# Altium footprint library Mercury2.PcbLib: 66 footprints (part 1 of 5)
Each footprint in its own frame and in the unit in brackets; x right, y up, seen from the top. Pads: shape width x height; smd on the part's side, far side on the other; paste and mask are expansions set on the pad; w line width, h text height; cw(c..) or ccw(c..) is an arc to the next point about the centre after c.
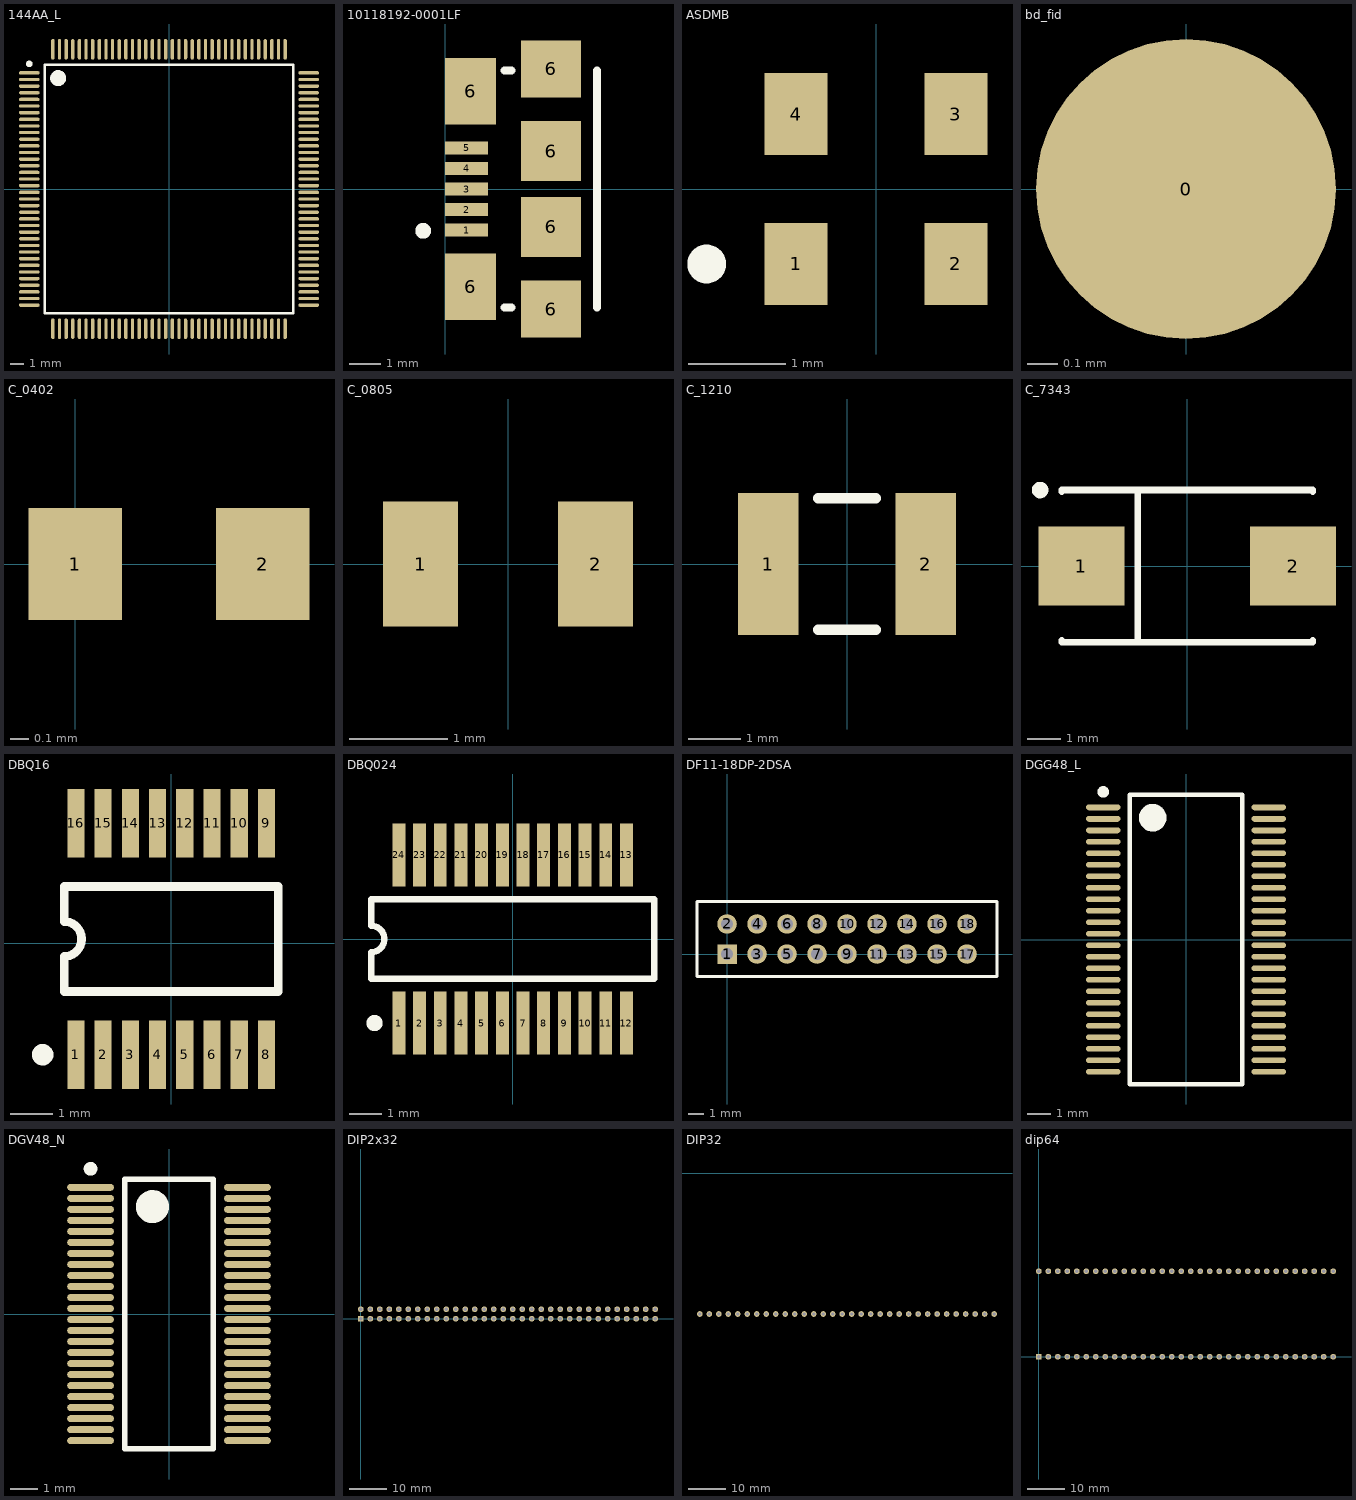
[diagram p0: the footprints below, top view; thin cyan lines are the x and y axes]

## 144AA_L [mm] "Thin QFP, 144-Leads, Body 20x20mm, Pitch 0.5mm, IPC High Density"
height 1.6
pads (144):
  oval 1.55x0.25 smd: 1(-10.525,8.75) 2(-10.525,8.25) 3(-10.525,7.75) 4(-10.525,7.25) 5(-10.525,6.75) 6(-10.525,6.25) 7(-10.525,5.75) 8(-10.525,5.25) 9(-10.525,4.75) 10(-10.525,4.25) 11(-10.525,3.75) 12(-10.525,3.25) 13(-10.525,2.75) 14(-10.525,2.25) 15(-10.525,1.75) 16(-10.525,1.25) 17(-10.525,0.75) 18(-10.525,0.25) 19(-10.525,-0.25) 20(-10.525,-0.75) 21(-10.525,-1.25) 22(-10.525,-1.75) 23(-10.525,-2.25) 24(-10.525,-2.75) 25(-10.525,-3.25) 26(-10.525,-3.75) 27(-10.525,-4.25) 28(-10.525,-4.75) 29(-10.525,-5.25) 30(-10.525,-5.75) 31(-10.525,-6.25) 32(-10.525,-6.75) 33(-10.525,-7.25) 34(-10.525,-7.75) 35(-10.525,-8.25) 36(-10.525,-8.75) 73(10.525,-8.75) 74(10.525,-8.25) 75(10.525,-7.75) 76(10.525,-7.25) 77(10.525,-6.75) 78(10.525,-6.25) 79(10.525,-5.75) 80(10.525,-5.25) 81(10.525,-4.75) 82(10.525,-4.25) 83(10.525,-3.75) 84(10.525,-3.25) 85(10.525,-2.75) 86(10.525,-2.25) 87(10.525,-1.75) 88(10.525,-1.25) 89(10.525,-0.75) 90(10.525,-0.25) 91(10.525,0.25) 92(10.525,0.75) 93(10.525,1.25) 94(10.525,1.75) 95(10.525,2.25) 96(10.525,2.75) 97(10.525,3.25) 98(10.525,3.75) 99(10.525,4.25) 100(10.525,4.75) 101(10.525,5.25) 102(10.525,5.75) 103(10.525,6.25) 104(10.525,6.75) 105(10.525,7.25) 106(10.525,7.75) 107(10.525,8.25) 108(10.525,8.75)
  oval 0.25x1.55 smd: 37(-8.75,-10.525) 38(-8.25,-10.525) 39(-7.75,-10.525) 40(-7.25,-10.525) 41(-6.75,-10.525) 42(-6.25,-10.525) 43(-5.75,-10.525) 44(-5.25,-10.525) 45(-4.75,-10.525) 46(-4.25,-10.525) 47(-3.75,-10.525) 48(-3.25,-10.525) 49(-2.75,-10.525) 50(-2.25,-10.525) 51(-1.75,-10.525) 52(-1.25,-10.525) 53(-0.75,-10.525) 54(-0.25,-10.525) 55(0.25,-10.525) 56(0.75,-10.525) 57(1.25,-10.525) 58(1.75,-10.525) 59(2.25,-10.525) 60(2.75,-10.525) 61(3.25,-10.525) 62(3.75,-10.525) 63(4.25,-10.525) 64(4.75,-10.525) 65(5.25,-10.525) 66(5.75,-10.525) 67(6.25,-10.525) 68(6.75,-10.525) 69(7.25,-10.525) 70(7.75,-10.525) 71(8.25,-10.525) 72(8.75,-10.525) 109(8.75,10.525) 110(8.25,10.525) 111(7.75,10.525) 112(7.25,10.525) 113(6.75,10.525) 114(6.25,10.525) 115(5.75,10.525) 116(5.25,10.525) 117(4.75,10.525) 118(4.25,10.525) 119(3.75,10.525) 120(3.25,10.525) 121(2.75,10.525) 122(2.25,10.525) 123(1.75,10.525) 124(1.25,10.525) 125(0.75,10.525) 126(0.25,10.525) 127(-0.25,10.525) 128(-0.75,10.525) 129(-1.25,10.525) 130(-1.75,10.525) 131(-2.25,10.525) 132(-2.75,10.525) 133(-3.25,10.525) 134(-3.75,10.525) 135(-4.25,10.525) 136(-4.75,10.525) 137(-5.25,10.525) 138(-5.75,10.525) 139(-6.25,10.525) 140(-6.75,10.525) 141(-7.25,10.525) 142(-7.75,10.525) 143(-8.25,10.525) 144(-8.75,10.525)
Top Overlay:
  circle w0.25: c-10.525,9.425 r0.125
  circle w0.6: c-8.35,8.35 r0.3
  lines w0.2: -9.35,-9.35 -9.35,9.35 9.35,9.35 9.35,-9.35 -9.35,-9.35

## 10118192-0001LF [mm] "FCI 5P MICRO USB TYPE B RECEPTACLE"
pads (11):
  rect 1.35x0.4 smd: 1(0.675,-1.3) 2(0.675,-0.65) 3(0.675,0) 4(0.675,0.65) 5(0.675,1.3)
  rect 1.6x2.1 smd: 6(0.8,-3.1) 6(0.8,3.1)
  rect 1.9x1.8 smd: 6(3.35,-3.8) 6(3.35,3.8)
  rect 1.9x1.9 smd: 6(3.35,-1.2) 6(3.35,1.2)
Top Overlay:
  circle w0.25: c-0.7,-1.325 r0.125
  lines w0.254: 1.875,-3.75 2.1,-3.75 ; 1.875,3.75 2.1,3.75 ; 4.8,-3.75 4.8,3.75

## ASDMB [mm] "MEMS Oscillator, 2mm W x 2.5 mm L"
pads (4):
  rect 0.65x0.85 smd: 1(-0.825,-0.775) 2(0.825,-0.775) 3(0.825,0.775) 4(-0.825,0.775)
Top Overlay:
  circle w0.2: c-1.75,-0.775 r0.1

## bd_fid [mm]
pads (1):
  round 1 smd paste-0.508 mask+0.5: 0(0,0)

## C_0402 [mm] "Chip Capacitor, 2-Leads, Body 1.00x0.50mm"
height 0.6
pads (2):
  rect 0.5x0.6 smd: 1(0,0) 2(1,0)

## C_0805 [mil] "Chip Capacitor; Body 2.0 x 1.2 mm (LxW typ)"
height 43.31
pads (2):
  rect 30x50 smd: 1(-35,0) 2(35,0)

## C_1210 [mm] "Chip Capacitor, Body 3.2x2.5mm, Height 1mm, IPC Medium Density"
height 1
pads (2):
  rect 1.15x2.7 smd: 1(-1.5,0) 2(1.5,0)
Top Overlay:
  lines w0.2: -0.55,-1.25 0.55,-1.25 ; -0.55,1.25 0.55,1.25

## C_7343 [mm] "Capacitor, SM Tantalum; Body 7.3 x 4.3 mm (LxW typ)"
height 3.7
pads (2):
  rect 2.6x2.4 smd: 1(-3.2,0) 2(3.2,0)
Top Overlay:
  circle w0.25: c-4.45,2.3 r0.125
  lines w0.2: -3.8,-2.25 -3.8,-2.3 3.8,-2.3 3.8,-2.25 ; -3.8,2.25 -3.8,2.3 3.8,2.3 3.8,2.25 ; -1.5,-2.3 -1.5,2.3

## DBQ16 [mm] "SSOP; 16 Leads; Body Width 5 mm; Pitch 0.64 mm"
pads (16):
  rect 0.4x1.6 smd: 1(-2.223,-2.6) 2(-1.588,-2.6) 3(-0.953,-2.6) 4(-0.318,-2.6) 5(0.317,-2.6) 6(0.952,-2.6) 7(1.587,-2.6) 8(2.222,-2.6) 9(2.222,2.8) 10(1.587,2.8) 11(0.952,2.8) 12(0.317,2.8) 13(-0.318,2.8) 14(-0.953,2.8) 15(-1.588,2.8) 16(-2.223,2.8)
Top Overlay:
  circle w0.25: c-3,-2.6 r0.125
  lines w0.2: -2.5,-1.125 2.5,-1.125 2.5,1.325 -2.5,1.325 -2.5,0.508 cw(c-2.5,0.1) -2.5,-0.308 -2.5,-1.125

## DBQ024 [mm] "SSOP; 24 Leads; Body Width 3.9 mm; Pitch 0.64 mm"
height 1.75
pads (24):
  rect 0.4x1.95 smd: 1(-3.52,-2.6) 2(-2.88,-2.6) 3(-2.24,-2.6) 4(-1.6,-2.6) 5(-0.96,-2.6) 6(-0.32,-2.6) 7(0.32,-2.6) 8(0.96,-2.6) 9(1.6,-2.6) 10(2.24,-2.6) 11(2.88,-2.6) 12(3.52,-2.6) 13(3.52,2.6) 14(2.88,2.6) 15(2.24,2.6) 16(1.6,2.6) 17(0.96,2.6) 18(0.32,2.6) 19(-0.32,2.6) 20(-0.96,2.6) 21(-1.6,2.6) 22(-2.24,2.6) 23(-2.88,2.6) 24(-3.52,2.6)
Top Overlay:
  circle w0.25: c-4.27,-2.6 r0.125
  lines w0.2: -4.375,-1.225 4.375,-1.225 4.375,1.225 -4.375,1.225 -4.375,0.408 cw(c-4.375,0) -4.375,-0.408 -4.375,-1.225

## DF11-18DP-2DSA [mm]
height 6.6
pads (18):
  rect 1.3x1.3 hole 0.8: 1(0,0)
  round 1.3 hole 0.8: 2(0,2) 3(2,0) 4(2,2) 5(4,0) 6(4,2) 7(6,0) 8(6,2) 9(8,0) 10(8,2) 11(10,0) 12(10,2) 13(12,0) 14(12,2) 15(14,0) 16(14,2) 17(16,0) 18(16,2)
Top Overlay:
  lines w0.2: -2,-1.5 18,-1.5 18,3.5 -2,3.5 -2,-1.5

## DGG48_L [mm] "TSSOP, 48-Leads, Body 12.5x6.1mm, Pitch 0.5mm, IPC High Density"
height 1.2
pads (48):
  oval 1.5x0.25 smd: 1(-3.6,5.75) 2(-3.6,5.25) 3(-3.6,4.75) 4(-3.6,4.25) 5(-3.6,3.75) 6(-3.6,3.25) 7(-3.6,2.75) 8(-3.6,2.25) 9(-3.6,1.75) 10(-3.6,1.25) 11(-3.6,0.75) 12(-3.6,0.25) 13(-3.6,-0.25) 14(-3.6,-0.75) 15(-3.6,-1.25) 16(-3.6,-1.75) 17(-3.6,-2.25) 18(-3.6,-2.75) 19(-3.6,-3.25) 20(-3.6,-3.75) 21(-3.6,-4.25) 22(-3.6,-4.75) 23(-3.6,-5.25) 24(-3.6,-5.75) 25(3.6,-5.75) 26(3.6,-5.25) 27(3.6,-4.75) 28(3.6,-4.25) 29(3.6,-3.75) 30(3.6,-3.25) 31(3.6,-2.75) 32(3.6,-2.25) 33(3.6,-1.75) 34(3.6,-1.25) 35(3.6,-0.75) 36(3.6,-0.25) 37(3.6,0.25) 38(3.6,0.75) 39(3.6,1.25) 40(3.6,1.75) 41(3.6,2.25) 42(3.6,2.75) 43(3.6,3.25) 44(3.6,3.75) 45(3.6,4.25) 46(3.6,4.75) 47(3.6,5.25) 48(3.6,5.75)
Top Overlay:
  circle w0.25: c-3.6,6.425 r0.125
  circle w0.6: c-1.45,5.3 r0.3
  lines w0.2: -2.45,-6.3 -2.45,6.3 2.45,6.3 2.45,-6.3 -2.45,-6.3

## DGV48_N [mm] "TVSOP, 48-Leads, Body 9.7x4.4mm, Pitch 0.4mm, IPC Medium Density"
height 1.2
pads (48):
  oval 1.7x0.25 smd: 1(-2.85,4.6) 2(-2.85,4.2) 3(-2.85,3.8) 4(-2.85,3.4) 5(-2.85,3) 6(-2.85,2.6) 7(-2.85,2.2) 8(-2.85,1.8) 9(-2.85,1.4) 10(-2.85,1) 11(-2.85,0.6) 12(-2.85,0.2) 13(-2.85,-0.2) 14(-2.85,-0.6) 15(-2.85,-1) 16(-2.85,-1.4) 17(-2.85,-1.8) 18(-2.85,-2.2) 19(-2.85,-2.6) 20(-2.85,-3) 21(-2.85,-3.4) 22(-2.85,-3.8) 23(-2.85,-4.2) 24(-2.85,-4.6) 25(2.85,-4.6) 26(2.85,-4.2) 27(2.85,-3.8) 28(2.85,-3.4) 29(2.85,-3) 30(2.85,-2.6) 31(2.85,-2.2) 32(2.85,-1.8) 33(2.85,-1.4) 34(2.85,-1) 35(2.85,-0.6) 36(2.85,-0.2) 37(2.85,0.2) 38(2.85,0.6) 39(2.85,1) 40(2.85,1.4) 41(2.85,1.8) 42(2.85,2.2) 43(2.85,2.6) 44(2.85,3) 45(2.85,3.4) 46(2.85,3.8) 47(2.85,4.2) 48(2.85,4.6)
Top Overlay:
  circle w0.6: c-0.6,3.9 r0.3
  circle w0.25: c-2.85,5.275 r0.125
  lines w0.2: -1.6,-4.9 1.6,-4.9 1.6,4.9 -1.6,4.9 -1.6,-4.9

## DIP2x32 [mm]
pads (64):
  rect 1.5x1.5 hole 0.9: 1(0,0.025)
  round 1.5 hole 0.9: 2(0,2.565) 3(2.54,0.025) 4(2.54,2.565) 5(5.08,0.025) 6(5.08,2.565) 7(7.62,0.025) 8(7.62,2.565) 9(10.16,0.025) 10(10.16,2.565) 11(12.7,0.025) 12(12.7,2.565) 13(15.24,0.025) 14(15.24,2.565) 15(17.78,0.025) 16(17.78,2.565) 17(20.32,0.025) 18(20.32,2.565) 19(22.86,0.025) 20(22.86,2.565) 21(25.4,0.025) 22(25.4,2.565) 23(27.94,0.025) 24(27.94,2.565) 25(30.48,0.025) 26(30.48,2.565) 27(33.02,0.025) 28(33.02,2.565) 29(35.56,0.025) 30(35.56,2.565) 31(38.1,0.025) 32(38.1,2.565) 33(40.64,0.025) 34(40.64,2.565) 35(43.18,0.025) 36(43.18,2.565) 37(45.72,0.025) 38(45.72,2.565) 39(48.26,0.025) 40(48.26,2.565) 41(50.8,0.025) 42(50.8,2.565) 43(53.34,0.025) 44(53.34,2.565) 45(55.88,0.025) 46(55.88,2.565) 47(58.42,0.025) 48(58.42,2.565) 49(60.96,0.025) 50(60.96,2.565) 51(63.5,0.025) 52(63.5,2.565) 53(66.04,0.025) 54(66.04,2.565) 55(68.58,0.025) 56(68.58,2.565) 57(71.12,0.025) 58(71.12,2.565) 59(73.66,0.025) 60(73.66,2.565) 61(76.2,0.025) 62(76.2,2.565) 63(78.74,0.025) 64(78.74,2.565)

## DIP32 [mm]
pads (32):
  round 1.5 hole 0.9: 1(40.885,-37.6) 2(43.425,-37.6) 3(45.965,-37.6) 4(48.505,-37.6) 5(51.045,-37.6) 6(53.585,-37.6) 7(56.125,-37.6) 8(58.665,-37.6) 9(61.205,-37.6) 10(63.745,-37.6) 11(66.285,-37.6) 12(68.825,-37.6) 13(71.365,-37.6) 14(73.905,-37.6) 15(76.445,-37.6) 16(78.985,-37.6) 17(81.525,-37.6) 18(84.065,-37.6) 19(86.605,-37.6) 20(89.145,-37.6) 21(91.685,-37.6) 22(94.225,-37.6) 23(96.765,-37.6) 24(99.305,-37.6) 25(101.845,-37.6) 26(104.385,-37.6) 27(106.925,-37.6) 28(109.465,-37.6) 29(112.005,-37.6) 30(114.545,-37.6) 31(117.085,-37.6) 32(119.65,-37.6)

## dip64 [mm]
pads (64):
  rect 1.5x1.5 hole 0.9: 1(0,0)
  round 1.5 hole 0.9: 2(2.54,0) 3(5.08,0) 4(7.62,0) 5(10.16,0) 6(12.7,0) 7(15.24,0) 8(17.78,0) 9(20.32,0) 10(22.86,0) 11(25.4,0) 12(27.94,0) 13(30.48,0) 14(33.02,0) 15(35.56,0) 16(38.1,0) 17(40.64,0) 18(43.18,0) 19(45.72,0) 20(48.26,0) 21(50.8,0) 22(53.34,0) 23(55.88,0) 24(58.42,0) 25(60.96,0) 26(63.5,0) 27(66.04,0) 28(68.58,0) 29(71.12,0) 30(73.66,0) 31(76.2,0) 32(78.74,0) 33(78.74,22.86) 34(76.2,22.86) 35(73.66,22.86) 36(71.12,22.86) 37(68.58,22.86) 38(66.04,22.86) 39(63.5,22.86) 40(60.96,22.86) 41(58.42,22.86) 42(55.88,22.86) 43(53.34,22.86) 44(50.8,22.86) 45(48.26,22.86) 46(45.72,22.86) 47(43.18,22.86) 48(40.64,22.86) 49(38.1,22.86) 50(35.56,22.86) 51(33.02,22.86) 52(30.48,22.86) 53(27.94,22.86) 54(25.4,22.86) 55(22.86,22.86) 56(20.32,22.86) 57(17.78,22.86) 58(15.24,22.86) 59(12.7,22.86) 60(10.16,22.86) 61(7.62,22.86) 62(5.08,22.86) 63(2.54,22.86) 64(0,22.86)